# EAGLE library part W25Q128JVSIM (library SummerCart64)
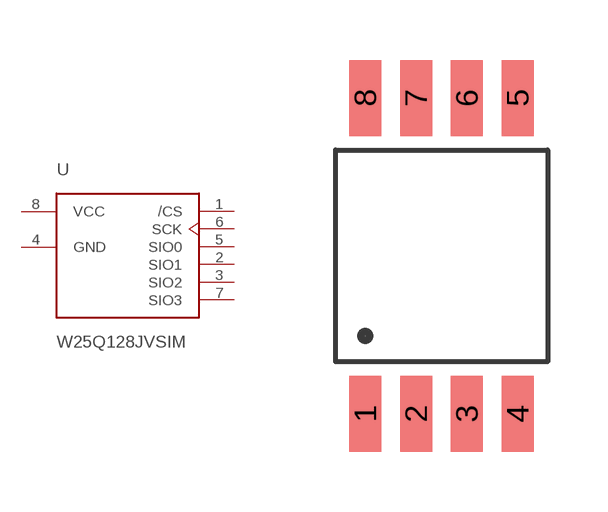
[diagram p6: symbol with the pads of SO8_208MIL; footprint SO8_208MIL]

Designator prefix U

## W25Q128JVSIM  [SO8_208MIL]
1  /CS  in
2  SIO1
3  SIO2
4  GND  pwr
5  SIO0
6  SCK  in
7  SIO3
8  VCC  pwr

## Footprint SO8_208MIL (pad centres in mm)
smd 0.8 x 1.9: 1 -1.905,-3.95; 2 -0.635,-3.95; 3 0.635,-3.95; 4 1.905,-3.95; 5 1.905,3.95; 6 0.635,3.95; 7 -0.635,3.95; 8 -1.905,3.95